# EAGLE library part TPS54386 (library OpenSpace)
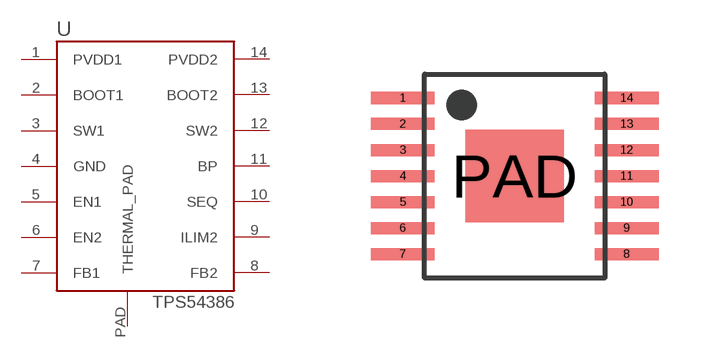
[diagram p2: symbol with the pads of HTSSOP-14; footprint HTSSOP-14]

Designator prefix -

## TPS54386  [HTSSOP-14]
1  PVDD1
2  BOOT1
3  SW1
4  GND
5  EN1
6  EN2
7  FB1
8  FB2
9  ILIM2
10  SEQ
11  BP
12  SW2
13  BOOT2
14  PVDD2
PAD  THERMAL_PAD

## Footprint HTSSOP-14 (pad centres in mm)
smd 1.6 x 0.3: 1 -2.8,1.95; 2 -2.8,1.3; 3 -2.8,0.65; 4 -2.8,0; 5 -2.8,-0.65; 6 -2.8,-1.3; 7 -2.8,-1.95; 8 2.8,-1.95; 9 2.8,-1.3; 10 2.8,-0.65; 11 2.8,0; 12 2.8,0.65; 13 2.8,1.3; 14 2.8,1.95
smd 2.46 x 2.31: PAD 0,0